# Altium schematic symbol library DIODE,Gen,1000V,1A,Thru.Schlib: 1 symbol
Pins are listed as number, name and electrical type; pins without a type are passive.

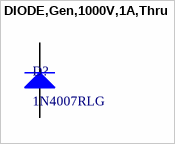
[diagram p0: symbol DIODE,Gen,1000V,1A,Thru]

## DIODE,Gen,1000V,1A,Thru
designator D?, comment 1N4007RLG
Diode Standard 1000V 1A Through Hole DO-41
pins: 1 K, 2 A